# Altium footprint library LIB_MVMC.PcbLib: 49 footprints (part 3 of 4)
Each footprint in its own frame and in the unit in brackets; x right, y up, seen from the top. Pads: shape width x height; smd on the part's side, far side on the other; paste and mask are expansions set on the pad; w line width, h text height; cw(c..) or ccw(c..) is an arc to the next point about the centre after c.
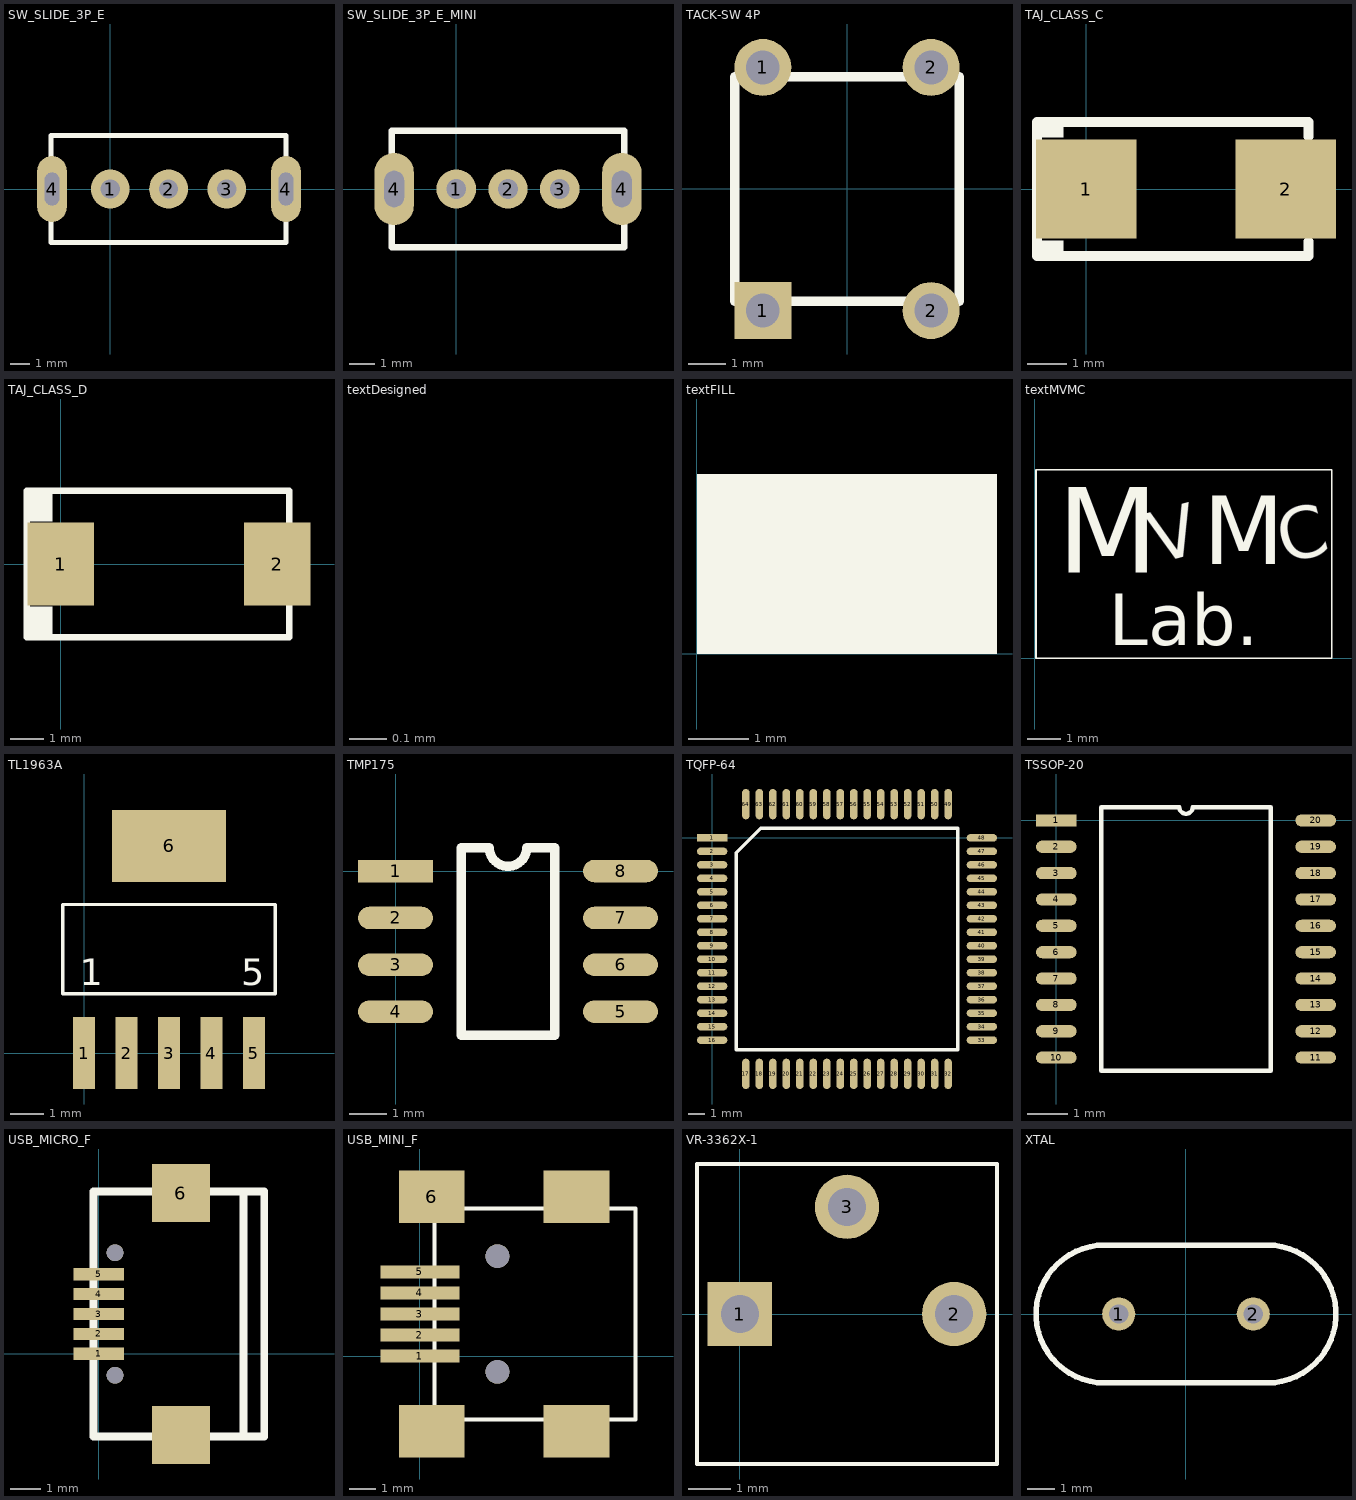
[diagram p2: the footprints below, top view; thin cyan lines are the x and y axes]

## SW_SLIDE_3P_E [mm]
pads (5):
  round 2 hole 1: 1(0,0) 2(3,0) 3(6,0)
  oval 1.524x3.4 hole 0.762 slot 1.7 at 90 deg: 4(-3,0) 4(9.05,0)
Top Overlay:
  lines w0.254: -3.05,-2.75 -3.05,2.75 9.05,2.75 9.05,-2.75 -3.05,-2.75

## SW_SLIDE_3P_E_MINI [mil]
pads (5):
  round 60 hole 30: 1(0,0) 2(78.74,0) 3(157.48,0)
  oval 60x110.24 hole 30 slot 55.12 at 90 deg: 4(-94.49,0) 4(251.97,0)
Top Overlay:
  lines w10: -98.43,-88.58 255.91,-88.58 255.91,88.58 -98.43,88.58 -98.43,-88.58
3D body "Selector Switch - SS12D00.stp": height 191.04, standoff -182.96, extent -89.81,-72.53 248.19,73.47

## TACK-SW 4P [mm]
pads (4):
  rect 1.524x1.524 hole 0.9: 1(-2.25,-3.25)
  round 1.524 hole 0.9: 1(-2.25,3.25) 2(2.25,-3.25) 2(2.25,3.25)
Top Overlay:
  lines w0.254: -3,-3 -3,3 3,3 3,-3 -3,-3

## TAJ_CLASS_C [mm]
pads (2):
  rect 2.55x2.5 smd: 1(0,0) 2(5.05,0)
Top Overlay:
  rectangle: -1.25,-1.7 -0.575,-1.3
  rectangle: -1.25,1.3 -0.575,1.7
  lines w0.254: 5.625,-1.325 5.625,-1.7 -0.575,-1.7 -1.25,-1.7 -1.25,1.7 -0.575,1.7 5.625,1.7 5.625,1.325
3D body "TAJC227K006TNJ.stp": height 2.8, standoff 0, extent -0.528,-1.583 5.472,1.567

## TAJ_CLASS_D [mm]
pads (2):
  rect 2x2.5 smd: 1(0,0) 2(6.5,0)
Top Overlay:
  rectangle: -1.013,1.271 -0.251,2.201
  rectangle: -1.013,-2.199 -0.251,-1.269
  lines w0.2: 6.858,-1.27 6.858,-2.2 -1.016,-2.2 -1.016,-1.27 -1.016,2.2 6.858,2.2 6.858,1.27

## textDesigned [mm]
Top Overlay:
  text "Designed by Hsin-Ho Chen" at 0.1,0.3 h0.8

## textFILL [mm]
Top Overlay:
  rectangle: 0,0 5,3

## textMVMC [mm]
Top Overlay:
  lines w0.051: 0.044,0.006 0.044,5.594 8.807,5.594 8.807,0.006 0.044,0.006
  text "V" at 3.6,2.8 h1.52
  text "Lab." at 2.203,0.387 h1.52
  text "M" at 4.997,2.8 h2.03
  text "M" at 0.679,2.546 h2.54
  text "C" at 7.41,2.8 h1.52

## TL1963A [mm]
pads (6):
  rect 0.65x2.15 smd: 1(0,0) 2(1.27,0) 3(2.54,0) 4(3.81,0) 5(5.08,0)
  rect 3.4x2.15 smd: 6(2.54,6.2)
Top Overlay:
  lines w0.1: -0.635,1.778 5.715,1.778 5.715,4.445 -0.635,4.445 -0.635,1.778
  text "5" at 4.699,2.032 h0.8
  text "1" at -0.127,2.032 h0.8

## TMP175 [mil]
pads (8):
  rect 80x24 smd: 1(0,0)
  oval 80x24 smd: 2(0,-50) 3(0,-100) 4(0,-150) 5(240,-150) 6(240,-100) 7(240,-50) 8(240,0)
Top Overlay:
  lines w10: 70,-175 70,25 100,25 ccw(c120,25) 140,25 170,25 170,-175 70,-175

## TQFP-64 [mm]
pads (64):
  rect 1.8x0.45 smd: 1(0,0)
  oval 1.8x0.45 smd: 2(0,-0.8) 3(0,-1.6) 4(0,-2.4) 5(0,-3.2) 6(0,-4) 7(0,-4.8) 8(0,-5.6) 9(0,-6.4) 10(0,-7.2) 11(0,-8) 12(0,-8.8) 13(0,-9.6) 14(0,-10.4) 15(0,-11.2) 16(0,-12) 33(16,-12) 34(16,-11.2) 35(16,-10.4) 36(16,-9.6) 37(16,-8.8) 38(16,-8) 39(16,-7.2) 40(16,-6.4) 41(16,-5.6) 42(16,-4.8) 43(16,-4) 44(16,-3.2) 45(16,-2.4) 46(16,-1.6) 47(16,-0.8) 48(16,0)
  oval 0.45x1.8 smd: 17(2,-14) 18(2.8,-14) 19(3.6,-14) 20(4.4,-14) 21(5.2,-14) 22(6,-14) 23(6.8,-14) 24(7.6,-14) 25(8.4,-14) 26(9.2,-14) 27(10,-14) 28(10.8,-14) 29(11.6,-14) 30(12.4,-14) 31(13.2,-14) 32(14,-14) 49(14,2) 50(13.2,2) 51(12.4,2) 52(11.6,2) 53(10.8,2) 54(10,2) 55(9.2,2) 56(8.4,2) 57(7.6,2) 58(6.8,2) 59(6,2) 60(5.2,2) 61(4.4,2) 62(3.6,2) 63(2.8,2) 64(2,2)
Top Overlay:
  lines w0.2: 1.435,-12.565 14.565,-12.565 14.565,0.565 2.87,0.565 1.435,-0.87 1.435,-12.565

## TSSOP-20 [mm]
pads (20):
  rect 1x0.3 smd: 1(0,0)
  oval 1x0.3 smd: 2(0,-0.65) 3(0,-1.3) 4(0,-1.95) 5(0,-2.6) 6(0,-3.25) 7(0,-3.9) 8(0,-4.55) 9(0,-5.2) 10(0,-5.85) 11(6.4,-5.85) 12(6.4,-5.2) 13(6.4,-4.55) 14(6.4,-3.9) 15(6.4,-3.25) 16(6.4,-2.6) 17(6.4,-1.95) 18(6.4,-1.3) 19(6.4,-0.65) 20(6.4,0)
Top Overlay:
  lines w0.1: 1.11,-6.175 1.11,0.325 3.037,0.325 ccw(c3.2,0.325) 3.362,0.325 5.29,0.325 5.29,-6.175 1.11,-6.175

## USB_MICRO_F [mm]
pads (9):
  rect 1.65x0.4 smd: 1(0,0) 2(0,0.65) 3(0,1.3) 4(0,1.95) 5(0,2.6)
  rect 1.9x1.9 smd: 6(2.675,5.25) ""(2.675,-2.65)
  round 0.55 hole 0.55: ""(0.525,-0.7) ""(0.525,3.3)
Top Overlay:
  lines w0.254: -0.175,-2.7 5.4,-2.7 5.4,5.3 4.725,5.3 ; -0.175,-2.7 -0.175,5.3 4.725,5.3 ; -0.175,-2.7 4.725,-2.7 4.725,5.3

## USB_MINI_F [mm]
pads (11):
  rect 3x0.5 smd: 1(0,0) 2(0,0.8) 3(0,1.6) 4(0,2.4) 5(0,3.2)
  rect 2.5x2 smd: 6(0.45,6.05) ""(0.45,-2.85) ""(5.95,-2.85) ""(5.95,6.05)
  round 0.9 hole 0.9: ""(2.95,-0.6) ""(2.95,3.8)
Top Overlay:
  lines w0.152: 0.55,5.6 0.55,-2.4 8.2,-2.4 8.2,5.6 0.553,5.6

## VR-3362X-1 [mil]
pads (3):
  rect 60x60 hole 35.43: 1(0,0)
  round 60 hole 35.43: 2(200,0) 3(100,100)
Top Overlay:
  lines w3.94: -40,-140 240,-140 240,140 -40,140 -40,-140

## XTAL [mm]
pads (2):
  round 1.2 hole 0.7: 1(-2.44,0) 2(2.44,0)
Top Overlay:
  lines w0.2: -2.94,-2.5 cw(c-2.94,0) -2.94,2.5 2.94,2.5 cw(c2.94,0) 2.94,-2.5 -2.94,-2.5